# Altium schematic symbol library M50-3001045.SchLib: 2 symbols
Pins are listed as number, name and electrical type; pins without a type are passive.

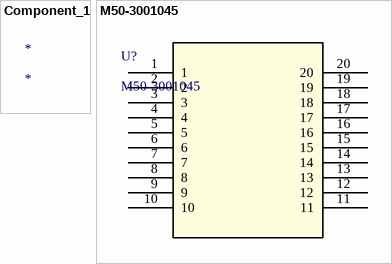
[diagram p0: symbols Component_1 to M50-3001045]

## Component_1
designator *

## M50-3001045
designator U?
No Description Available; Mfr_Name: Harwin; Copyright: Copyright (C) 2022 Ultra Librarian. All rights reserved.; Manufacturer_Part_Number: M50-3001045; RefDes: RefDes; Type: DEV
footprint M50-3001045_HRW
pins: 1, 2, 3, 4, 5, 6, 7, 8, 9, 10, 11, 12, 13, 14, 15, 16, 17, 18, 19, 20